# Altium footprint library Maks_lib.PcbLib: 26 footprints (part 1 of 2)
Each footprint in its own frame and in the unit in brackets; x right, y up, seen from the top. Pads: shape width x height; smd on the part's side, far side on the other; paste and mask are expansions set on the pad; w line width, h text height; cw(c..) or ccw(c..) is an arc to the next point about the centre after c.
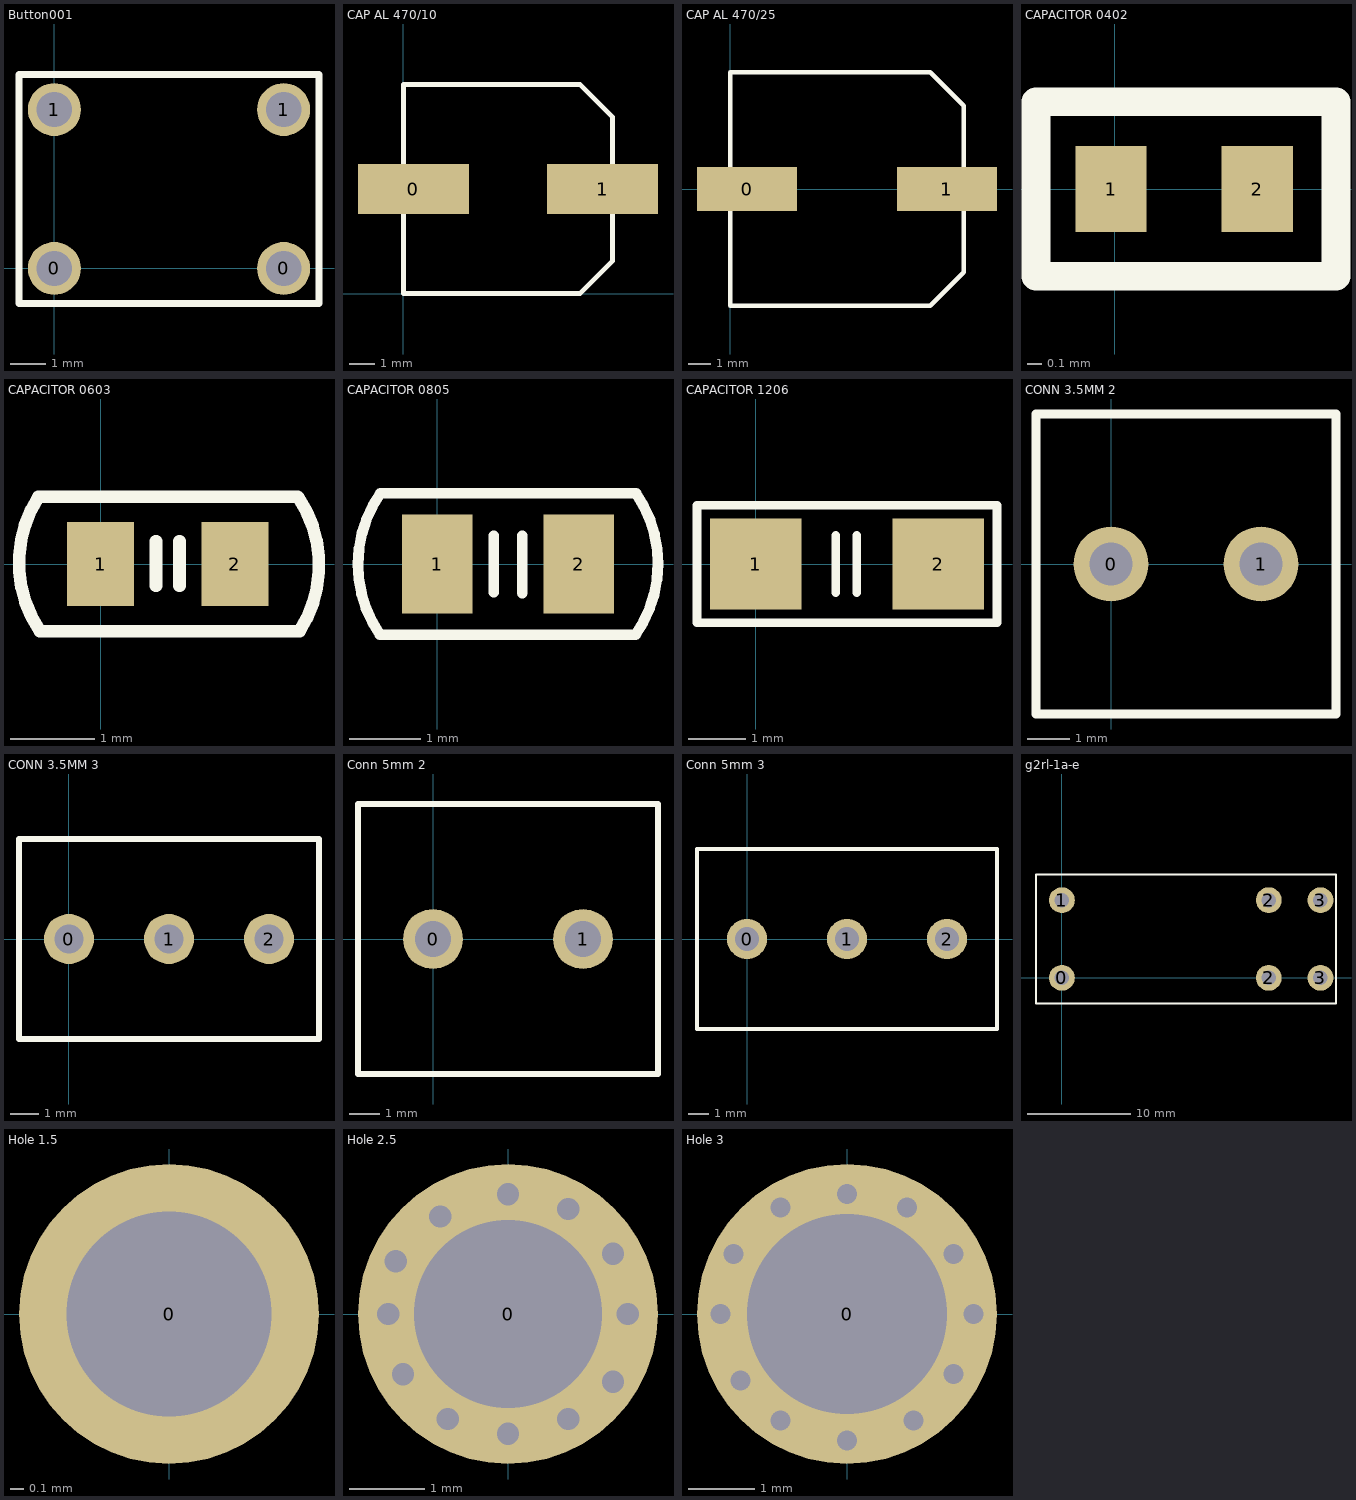
[diagram p0: the footprints below, top view; thin cyan lines are the x and y axes]

## Button001 [mm]
pads (4):
  round 1.5 hole 1: 0(0,0) 0(6.5,0) 1(0,4.5) 1(6.5,4.5)
Top Overlay:
  lines w0.2: -1,-1 7.5,-1 7.5,5.5 -1,5.5 -1,-1

## CAP AL 220/16 [mm]

## CAP AL 470/10 [mm]
pads (2):
  rect 4.4x2 smd: 0(0.4,4.15) 1(7.9,4.15)
Top Overlay:
  lines w0.2: 0,0 7,0 8.3,1.3 8.3,1.5 8.3,7 7,8.3 0,8.3 0,0

## CAP AL 470/25 [mm]
pads (2):
  rect 4.5x2 smd: 0(0.75,0) 1(9.75,0)
Top Overlay:
  lines w0.2: 0,-5.25 9,-5.25 10.5,-3.75 10.5,3.75 9,5.25 0,5.25 0,-5.25

## CAPACITOR 0402 [mm]
pads (2):
  rect 0.5x0.6 smd: 1(-0.025,0) 2(1,0)
Top Overlay:
  lines w0.2: -0.55,-0.61 -0.55,0.61 1.55,0.61 1.55,-0.61 -0.55,-0.61
3D body: height 0.55, standoff 0, extent -0.01,-0.28 0.2,0.28
3D body: height 0.54, standoff 0, extent 0,-0.25 1,0.25
3D body: height 0.55, standoff 0, extent 0.8,-0.28 1.01,0.28

## CAPACITOR 0603 [mm]
pads (2):
  rect 0.8x1 smd: 1(0,0) 2(1.6,0)
Top Overlay:
  lines w0.15: -0.74,0.801 ccw(c0.476,0.014) -0.73,-0.79 ; -0.725,-0.8 2.35,-0.8 ; -0.725,0.8 2.35,0.8 ; 0.66,-0.26 0.66,0.27 ; 0.94,-0.26 0.94,0.27 ; 2.36,0.79 cw(c1.154,-0.014) 2.37,-0.801
3D body: height 0.8, standoff 0, extent 0.02,-0.37 1.62,0.41
3D body: height 0.81, standoff 0, extent -0.01,-0.38 0.32,0.42
3D body: height 0.81, standoff 0, extent 1.32,-0.38 1.64,0.42

## CAPACITOR 0805 [mm]
pads (2):
  rect 1x1.4 smd: 1(0,0) 2(2,0)
Top Overlay:
  lines w0.15: -0.808,-0.998 cw(c0.627,-0.005) -0.8,1 2.8,1 ; -0.8,-1 2.8,-1 ccw(c1.373,0.005) 2.808,0.998 ; 0.8,-0.4 0.8,0.4 ; 1.2,-0.41 1.2,0.4
3D body: height 1.25, standoff 0, extent 0.33,-0.58 1.72,0.58
3D body: height 1.26, standoff 0, extent 0.01,-0.605 0.36,0.595
3D body: height 1.26, standoff 0, extent 1.7,-0.6 2.01,0.6

## CAPACITOR 1206 [mm]
pads (2):
  rect 1.6x1.6 smd: 1(0,0) 2(3.2,0)
Top Overlay:
  lines w0.15: 1.4,-0.5 1.4,0.5 ; 1.77,-0.5 1.77,0.5 ; -1.025,-1.025 4.225,-1.025 4.225,1.025 -1.025,1.025 -1.025,-1.025
3D body: height 1.26, standoff 0, extent 2.88,-0.8 3.22,0.8
3D body: height 1.25, standoff 0, extent 0.31,-0.76 2.91,0.78
3D body: height 1.26, standoff 0, extent 0.01,-0.8 0.35,0.8

## CONN 3.5MM 2 [mm]
pads (2):
  round 1.75 hole 1: 0(0,0) 1(3.5,0)
Top Overlay:
  lines w0.2: -1.75,-3.5 5.25,-3.5 5.25,3.5 -1.75,3.5 -1.75,0 -1.75,-3.5

## CONN 3.5MM 3 [mm]
pads (3):
  round 1.75 hole 1: 0(0,0) 1(3.5,0) 2(7,0)
Top Overlay:
  lines w0.2: -1.75,-3.5 -1.75,0 -1.75,3.5 8.75,3.5 8.75,-3.5 -1.75,-3.5

## Conn 5mm 2 [mm]
pads (2):
  round 2 hole 1.2: 0(0,0) 1(5,0)
Top Overlay:
  lines w0.2: -2.5,-4.5 7.5,-4.5 7.5,4.5 -2.5,4.5 -2.5,0 -2.5,-4.5

## Conn 5mm 3 [mm]
pads (3):
  round 2 hole 1.2: 0(0,0) 1(5,0) 2(10,0)
Top Overlay:
  lines w0.2: -2.5,-4.5 12.5,-4.5 12.5,4.5 -2.5,4.5 -2.5,0 -2.5,-4.5

## g2rl-1a-e [mm] "SPST relay 16A"
pads (6):
  round 2.5 hole 1.4: 0(0,0) 1(0,7.5) 2(20,0) 2(20,7.5) 3(25,0) 3(25,7.5)
Top Overlay:
  lines w0.2: -2.5,-2.5 26.5,-2.5 26.5,10 -2.5,10 -2.5,-2.5
3D body: height 15.7, standoff -3.79, extent -2.6,-2.6 26.4,10.1

## Hole 1.5 [mm]
pads (1):
  round 2.2 hole 1.5: 0(0,0)

## Hole 2.5 [mm]
pads (1):
  round 4 hole 2.5: 0(0,0)
via -1.4,-0.8 diameter 0.3 hole 0.3
via -0.8,-1.4 diameter 0.3 hole 0.3
via -1.6,0 diameter 0.3 hole 0.3
via 0,1.6 diameter 0.3 hole 0.3
via 1.6,0 diameter 0.3 hole 0.3
via 0,-1.6 diameter 0.3 hole 0.3
via -1.5,0.7 diameter 0.3 hole 0.3
via -0.9,1.3 diameter 0.3 hole 0.3
via 0.8,1.4 diameter 0.3 hole 0.3
via 1.4,0.8 diameter 0.3 hole 0.3
via 1.4,-0.9 diameter 0.3 hole 0.3
via 0.8,-1.4 diameter 0.3 hole 0.3

## Hole 3 [mm]
pads (1):
  round 4.5 hole 3: 0(0,0)
via -1,1.6 diameter 0.3 hole 0.3
via -1.7,0.9 diameter 0.3 hole 0.3
via -1.6,-1 diameter 0.3 hole 0.3
via -1,-1.6 diameter 0.3 hole 0.3
via 1,-1.6 diameter 0.3 hole 0.3
via 1.6,-0.9 diameter 0.3 hole 0.3
via 1.6,0.9 diameter 0.3 hole 0.3
via 0.9,1.6 diameter 0.3 hole 0.3
via 0,1.8 diameter 0.3 hole 0.3
via 1.9,0 diameter 0.3 hole 0.3
via 0,-1.9 diameter 0.3 hole 0.3
via -1.9,0 diameter 0.3 hole 0.3